# EAGLE library part PCA9517 (library TheMaker_Logic_v5)
Level translating I2C-bus repeater PCA9517 NXP Semiconductor
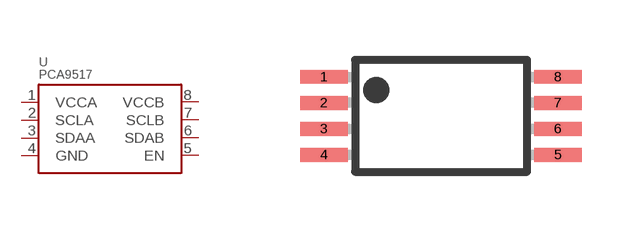
[diagram p1: symbol with the pads of TSSOP8; footprint TSSOP8]

Designator prefix -

## PCA9517DP  [TSSOP8]
1  VCCA
2  SCLA
3  SDAA
4  GND
5  EN
6  SDAB
7  SCLB
8  VCCB

## Footprint TSSOP8 (pad centres in mm)
smd 1.2 x 0.35: 1 -0.385,0.975; 2 -0.385,0.325; 3 -0.385,-0.325; 4 -0.385,-0.975; 5 5.465,-0.975; 6 5.465,-0.325; 7 5.465,0.325; 8 5.465,0.975